# Altium schematic symbol library Mega16.SchLib: 1 symbol
Pins are listed as number, name and electrical type; pins without a type are passive.

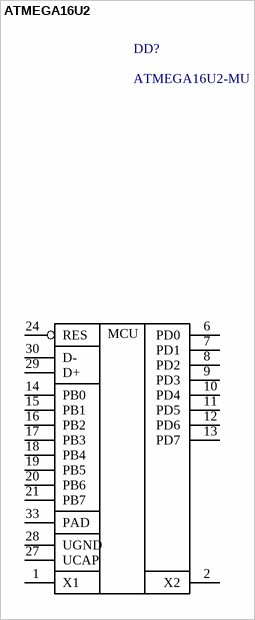
[diagram p0: symbol ATMEGA16U2]

## ATMEGA16U2
designator DD?, comment ATMEGA16U2-MU
Microcontroller
footprint TQFP80P900X900X120-32M (TQFP, 32-Leads, Body 7,00x7,00mm, Pitch 0,80mm, IPC Low Density)
pins: 1 X1 "XTAL1", 2 X2 "XTAL1", 3 GND (power) hidden "Ground", 4 VCC (power) hidden "Voltage Input", 6 PD0, 7 PD1, 8 PD2, 9 PD3, 10 PD4, 11 PD5, 12 PD6, 13 PD7, 14 PB0, 15 PB1, 16 PB2, 17 PB3, 18 PB4, 19 PB5, 20 PB6, 21 PB7, 24 RES "RESET", 27 UCAP, 28 UGND, 29 D+, 30 D-, 31 UVCC (power) hidden "Voltage Input", 32 AVCC (power) hidden "Voltage Input", 33 PAD
text: MCU